# Altium footprint library WE-PSPA.PcbLib: 2 footprints
Each footprint in its own frame and in the unit in brackets; x right, y up, seen from the top. Pads: shape width x height; smd on the part's side, far side on the other; paste and mask are expansions set on the pad; w line width, h text height; cw(c..) or ccw(c..) is an arc to the next point about the centre after c.
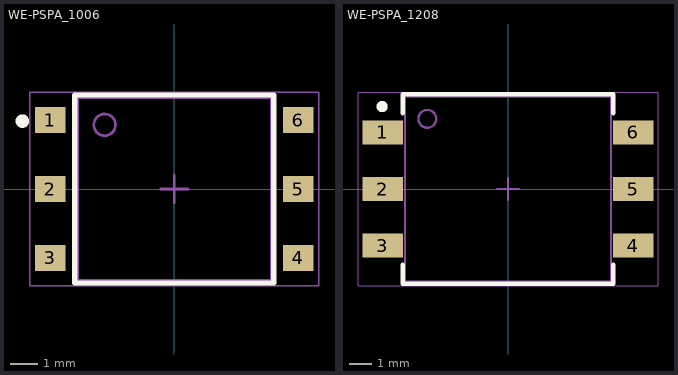
[diagram p0: the footprints below, top view; thin cyan lines are the x and y axes]

## WE-PSPA_1006 [mm] "Gate Drive Transformer, SMT, body 10.46 x 6.73 mm"
height 4.74
pads (6):
  rect 1.12x0.96 smd: 1(-4.57,2.54) 2(-4.57,0) 3(-4.57,-2.54) 4(4.57,-2.54) 5(4.57,0) 6(4.57,2.54)
Top Overlay:
  circle w0.25: c-5.6,2.5 r0.125
  lines w0.2: -3.67,-3.465 3.67,-3.465 3.67,3.465 -3.67,3.465 -3.67,-3.465
Top Assembly:
  circle w0.1: c-2.57,2.365 r0.4
  lines w0.1: -3.57,-3.365 -3.57,3.365 3.57,3.365 3.57,-3.365 -3.57,-3.365
Top Designator:
  text ".Designator" at -3.647,-0.357 h1
Top 3D Body:
  lines w0.1: -3.57,-3.365 3.57,-3.365 3.57,3.365 -3.57,3.365 -3.57,-3.365
Top Courtyard:
  lines w0.05: -5.33,-3.565 -5.33,3.565 5.33,3.565 5.33,-3.565 -5.33,-3.565
Top Component Center:
  lines w0.1: -0.5,0 0.5,0 ; 0,-0.5 0,0.5
3D body "STP_WE-IGDT-1006_78931610505 (rev1).stp": height 4.07, standoff 0.01, extent -4.98,-3.24 4.98,3.24

## WE-PSPA_1208 [mm] "Gate Drive Transformer, SMT, body 12.60 x 8.30mm"
height 4.1
pads (6):
  rect 1.83x1.09 smd: 1(-5.62,2.54) 2(-5.62,0) 3(-5.62,-2.54) 4(5.62,-2.54) 5(5.62,0) 6(5.62,2.54)
Top Overlay:
  circle w0.25: c-5.65,3.7 r0.125
  lines w0.2: -4.725,-3.4 -4.725,-4.25 4.725,-4.25 4.725,-3.4 ; -4.725,3.4 -4.725,4.25 4.725,4.25 4.725,3.4
Top Assembly:
  circle w0.1: c-3.625,3.15 r0.4
  lines w0.1: -4.625,-4.15 -4.625,4.15 4.625,4.15 4.625,-4.15 -4.625,-4.15
Top Designator:
  text ".Designator" at -3.647,-0.357 h1
Top 3D Body:
  lines w0.1: -4.625,-4.15 4.625,-4.15 4.625,4.15 -4.625,4.15 -4.625,-4.15
Top Courtyard:
  lines w0.05: -6.735,-4.35 6.735,-4.35 6.735,4.35 -6.735,4.35 -6.735,-4.35
Top Component Center:
  lines w0.1: -0.5,0 0.5,0 ; 0,-0.5 0,0.5
3D body "STP_WE-IGDT-1208_78931812505 (rev1).stp": height 3.98, standoff 0.01, extent -6.03,-4.015 6.04,4.015